# Altium schematic symbol library SCH - POWER - SWITCHMODE - TI TPS62000_DGS_10.SchLib: 1 symbol
Pins are listed as number, name and electrical type; pins without a type are passive.

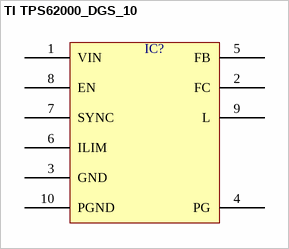
[diagram p0: symbol TI TPS62000_DGS_10]

## TI TPS62000_DGS_10
designator IC?  (value not drawn)
pins: 1 VIN, 2 FC, 3 GND, 4 PG, 5 FB, 6 ILIM, 7 SYNC, 8 EN, 9 L, 10 PGND